# Altium schematic symbol library LED-GRN.Schlib: 1 symbol
Pins are listed as number, name and electrical type; pins without a type are passive.

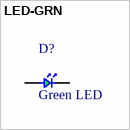
[diagram p0: symbol LED-GRN]

## LED-GRN
designator D?, comment Green LED
pins: A, C